# Altium footprint library 1984617.PcbLib: 1 footprints
Each footprint in its own frame and in the unit in brackets; x right, y up, seen from the top. Pads: shape width x height; smd on the part's side, far side on the other; paste and mask are expansions set on the pad; w line width, h text height; cw(c..) or ccw(c..) is an arc to the next point about the centre after c.
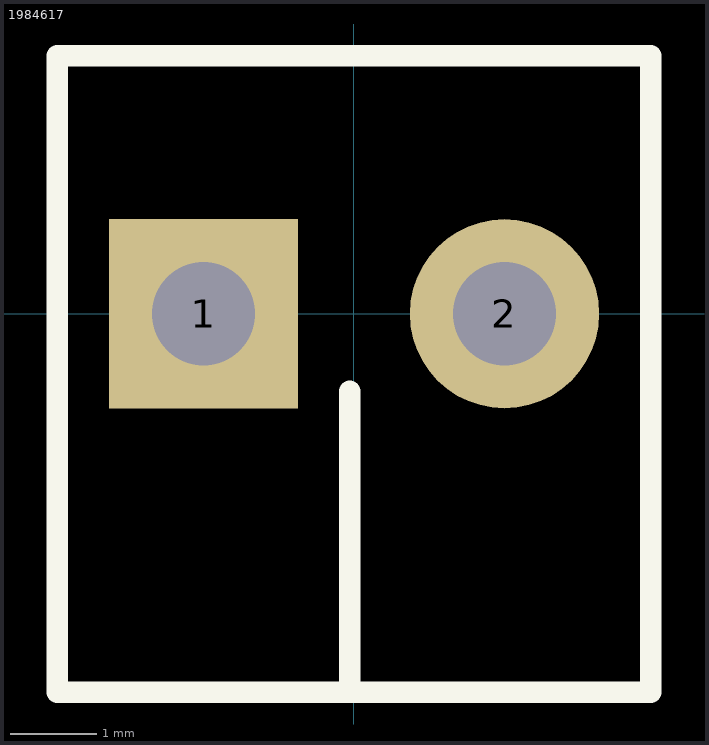
[diagram p0: the footprint, top view; thin cyan lines are the x and y axes]

## 1984617 [mm] "Phoenix 2-pin 3.5mm screw terminal"
pads (2):
  rect 2.2x2.2 hole 1.2: 1(-1.75,0)
  round 2.2 hole 1.2: 2(1.75,0)
Top Overlay:
  lines w0.254: -0.05,-4.4 -0.05,-0.9 ; 3.45,-0.9 3.45,-4.4 ; 3.45,-4.4 -3.45,-4.4 -3.45,3 3.45,3 3.45,-4.4
3D body "1984617.stp": height 9.05, standoff -4.45, extent -3.51,-4.5 4.06,3.1